# EAGLE library part DC-DC- (library suhyouri)
I3A4W008A033V-001-R DC DC CONVERTER 3.3-16.5V 100W https://www.digikey.kr/product-detail/ko/tdk-lambda-americas-inc/I3A4W008A033V-001-R/285-2720-ND/7321113
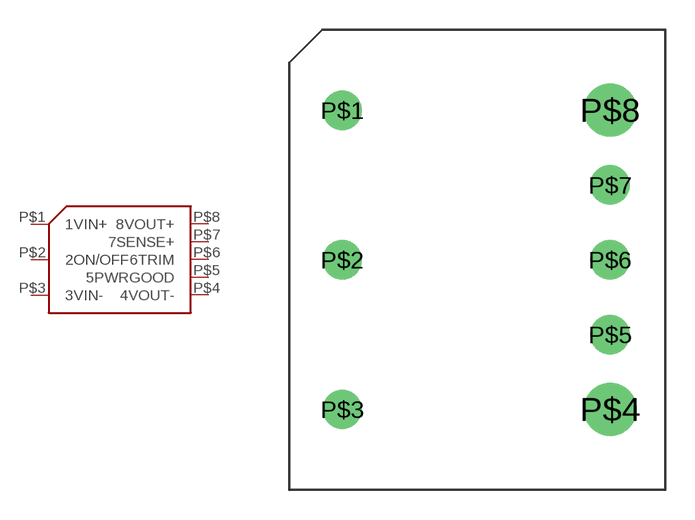
[diagram p3: symbol with the pads of I3A4W008A033V-001-R---; footprint I3A4W008A033V-001-R---]

Designator prefix -

## DC-DC-  [I3A4W008A033V-001-R---]
P$1  1VIN+
P$2  2ON/OFF
P$3  3VIN-
P$4  4VOUT-
P$5  5PWRGOOD
P$6  6TRIM
P$7  7SENSE+
P$8  8VOUT+

## Footprint I3A4W008A033V-001-R--- (pad centres in mm)
I3A4W008A033V-001-R DC DC CONVERTER 3.3-16.5V 100W https://www.digikey.kr/product-detail/ko/tdk-lambda-americas-inc/I3A4W008A033V-001-R/285-2720-ND/7321113
drill 1.02 pad 2: P$1 0,15.2; P$2 0,7.6; P$3 0,0; P$5 13.6,3.8; P$6 13.6,7.6; P$7 13.6,11.4
drill 1.57 pad 2.7: P$4 13.6,0; P$8 13.6,15.2